# EAGLE library part TBD62503A (library TBD62503A)
7ch Type-Sink DMOS Transistor Array
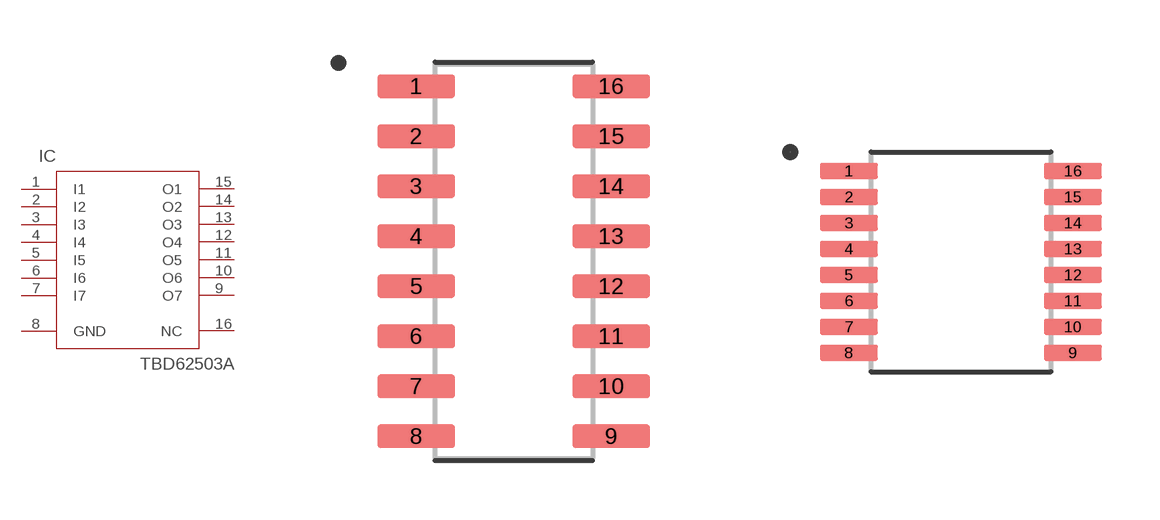
[diagram p0: symbol with the pads of SOIC127P600X175-16N; footprints SOIC127P600X175-16N, SSOP16-P-225-0.65B]

Designator prefix IC

## TBD62503AFG (A1_MIN: 0.1; A_MAX: 1.75; A_MIN: 1.75; A_NOM: 1.75; B_MAX: 0.49; B_MIN: 0.35; B_NOM: 0.42; D2_MAX: 0.0; D_MAX: 10.0; D_MIN: 9.8; D_NOM: 9.9; E1_MAX: 4.0; E1_MIN: 3.8; E1_NOM: 3.9; E2_MAX: 0.0; ENOM: 1.27; E_MAX: 6.2; E_MIN: 5.8; E_NOM: 6.0; L_MAX: 1.27; L_MIN: 0.4; L_NOM: 0.835; MANUFACTURER: Maxim Integrated; PIN_COUNT: 16.0; SNAPEDA_PACKAGE_ID: 70912; STANDARD: IPC 7351B)  [SOIC127P600X175-16N]
1  I1  in
2  I2  in
3  I3  in
4  I4  in
5  I5  in
6  I6  in
7  I7  in
8  GND  pwr
9  O7  out
10  O6  out
11  O5  out
12  O4  out
13  O3  out
14  O2  out
15  O1  out
16  NC  nc

## TBD62503AFNG  [SSOP16-P-225-0.65B]
Pads as for SOIC127P600X175-16N

## Footprint SOIC127P600X175-16N (pad centres in mm)
smd 1.97 x 0.59: 1 -2.475,4.445; 2 -2.475,3.175; 3 -2.475,1.905; 4 -2.475,0.635; 5 -2.475,-0.635; 6 -2.475,-1.905; 7 -2.475,-3.175; 8 -2.475,-4.445; 9 2.475,-4.445; 10 2.475,-3.175; 11 2.475,-1.905; 12 2.475,-0.635; 13 2.475,0.635; 14 2.475,1.905; 15 2.475,3.175; 16 2.475,4.445

## Footprint SSOP16-P-225-0.65B (pad centres in mm)
smd 1.45 x 0.4: 1 -2.7,2.275; 2 -2.7,1.625; 3 -2.7,0.975; 4 -2.7,0.325; 5 -2.7,-0.325; 6 -2.7,-0.975; 7 -2.7,-1.625; 8 -2.7,-2.275; 9 2.9,-2.275; 10 2.9,-1.625; 11 2.9,-0.975; 12 2.9,-0.325; 13 2.9,0.325; 14 2.9,0.975; 15 2.9,1.625; 16 2.9,2.275